# EAGLE library part MAX6126_UMAX8 (library max6126)
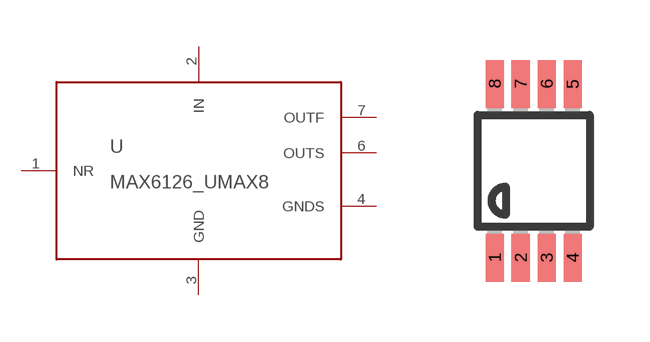
[diagram p1: symbol with the pads of UMAX8; footprint UMAX8]

Designator prefix -

## MAX6126_UMAX8  [UMAX8]
1  NR
2  IN
3  GND
4  GNDS
6  OUTS
7  OUTF

## Footprint UMAX8 (pad centres in mm)
micro MAX Package
smd 0.45 x 1.2: 1 -0.975,-2.175; 2 -0.325,-2.175; 3 0.325,-2.175; 4 0.975,-2.175; 5 0.975,2.175; 6 0.325,2.175; 7 -0.325,2.175; 8 -0.975,2.175